# EAGLE library part TLC5615 (library tmxk)
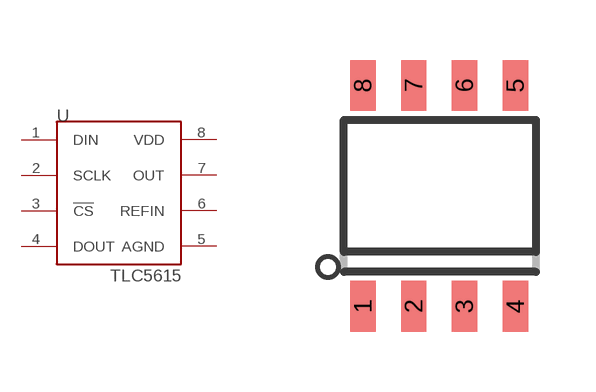
[diagram p19: symbol with the pads of SOP8; footprint SOP8]

Designator prefix U

## TLC5615  [SOP8]
1  DIN
2  SCLK
3  !CS!
4  DOUT
5  AGND
6  REFIN
7  OUT
8  VDD

## Footprint SOP8 (pad centres in mm)
Small Outline Package 8 NS Package M08A
smd 0.635 x 1.27: 1 -1.925,-2.76; 2 -0.655,-2.76; 3 0.615,-2.76; 4 1.885,-2.76; 5 1.885,2.76; 6 0.615,2.76; 7 -0.655,2.76; 8 -1.925,2.76